# Altium footprint library PcbLib1.PcbLib: 11 footprints
Each footprint in its own frame and in the unit in brackets; x right, y up, seen from the top. Pads: shape width x height; smd on the part's side, far side on the other; paste and mask are expansions set on the pad; w line width, h text height; cw(c..) or ccw(c..) is an arc to the next point about the centre after c.
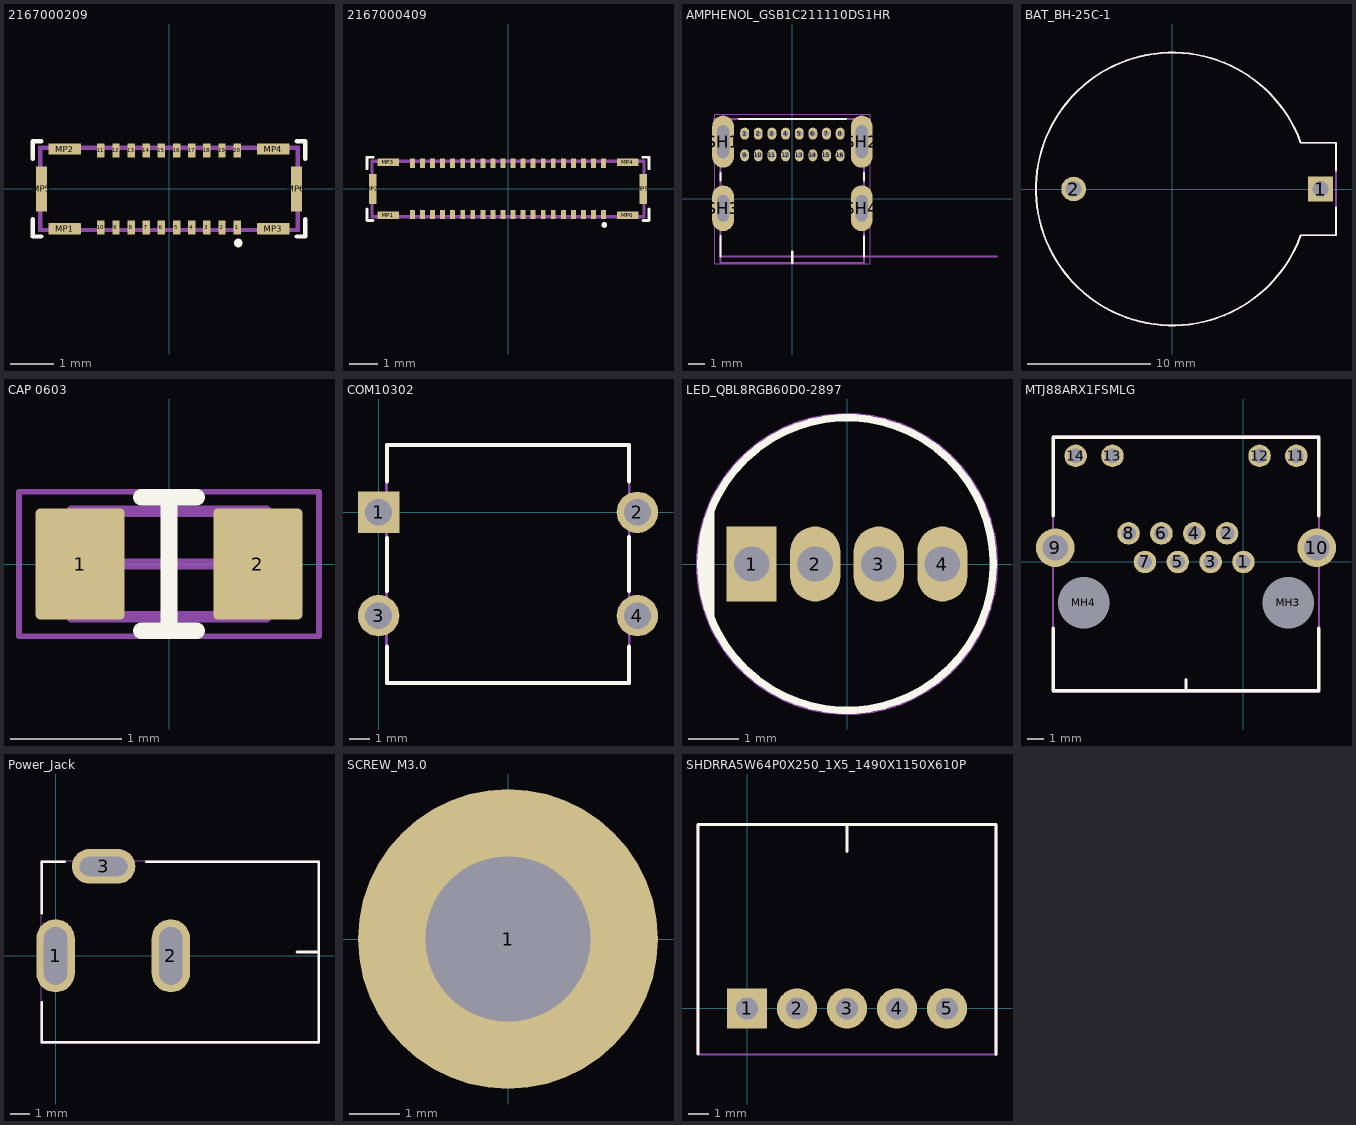
[diagram p0: the footprints below, top view; thin cyan lines are the x and y axes]

## 2167000209 [mm]
pads (26):
  rrect10% 0.17x0.325 smd: 1(1.575,-0.888) 2(1.225,-0.888) 3(0.875,-0.888) 4(0.525,-0.888) 5(0.175,-0.888) 6(-0.175,-0.888) 7(-0.525,-0.888) 8(-0.875,-0.888) 9(-1.225,-0.888) 10(-1.575,-0.888) 11(-1.575,0.888) 12(-1.225,0.888) 13(-0.875,0.888) 14(-0.525,0.888) 15(-0.175,0.888) 16(0.175,0.888) 17(0.525,0.888) 18(0.875,0.888) 19(1.225,0.888) 20(1.575,0.888)
  rrect10% 0.75x0.26 smd: MP1(-2.41,-0.92) MP2(-2.41,0.92) MP3(2.41,-0.92) MP4(2.41,0.92)
  rrect10% 0.26x1.04 smd: MP5(-2.945,0) MP6(2.945,0)
Top Overlay:
  lines w0.1: -3.15,-0.7 -3.15,-1.1 -2.95,-1.1 ; -3.15,0.7 -3.15,1.1 -2.95,1.1 ; 2.95,-1.1 3.15,-1.1 3.15,-0.7 ; 2.95,1.1 3.15,1.1 3.15,0.7 ; 1.6,-1.3 cw(c1.6,-1.25) 1.6,-1.2 cw(c1.6,-1.25) 1.6,-1.3
Mechanical 15:
  lines w0.1: -2.975,-0.95 -2.975,0.95 2.975,0.95 2.975,-0.95 -2.975,-0.95
Mechanical 20:
  lines w0.05: -3,-0.975 -3,0.975 3,0.975 3,-0.975 -3,-0.975

## 2167000409 [mm]
pads (46):
  rrect10% 0.17x0.325 smd: 1(3.325,-0.887) 2(2.975,-0.887) 3(2.625,-0.887) 4(2.275,-0.887) 5(1.925,-0.887) 6(1.575,-0.887) 7(1.225,-0.887) 8(0.875,-0.887) 9(0.525,-0.887) 10(0.175,-0.887) 11(-0.175,-0.887) 12(-0.525,-0.887) 13(-0.875,-0.887) 14(-1.225,-0.887) 15(-1.575,-0.887) 16(-1.925,-0.887) 17(-2.275,-0.887) 18(-2.625,-0.887) 19(-2.975,-0.887) 20(-3.325,-0.887) 21(-3.325,0.888) 22(-2.975,0.888) 23(-2.625,0.888) 24(-2.275,0.888) 25(-1.925,0.888) 26(-1.575,0.888) 27(-1.225,0.888) 28(-0.875,0.888) 29(-0.525,0.888) 30(-0.175,0.888) 31(0.175,0.888) 32(0.525,0.888) 33(0.875,0.888) 34(1.225,0.888) 35(1.575,0.888) 36(1.925,0.888) 37(2.275,0.888) 38(2.625,0.888) 39(2.975,0.888) 40(3.325,0.888)
  rrect10% 0.75x0.26 smd: MP1(-4.16,-0.92) MP3(-4.16,0.92) MP4(4.16,0.92) MP6(4.16,-0.92)
  rrect10% 0.26x1.04 smd: MP2(-4.695,0) MP5(4.695,0)
Top Overlay:
  lines w0.1: -4.9,-0.7 -4.9,-1.1 -4.7,-1.1 ; -4.9,0.7 -4.9,1.1 -4.7,1.1 ; 4.7,-1.1 4.9,-1.1 4.9,-0.7 ; 4.7,1.1 4.9,1.1 4.9,0.7 ; 3.35,-1.3 cw(c3.35,-1.25) 3.35,-1.2 cw(c3.35,-1.25) 3.35,-1.3
Mechanical 15:
  lines w0.1: -4.725,-0.95 -4.725,0.95 4.725,0.95 4.725,-0.95 -4.725,-0.95
Mechanical 20:
  lines w0.05: -4.75,-1 -4.75,1 4.75,1 4.75,-1 -4.75,-1

## AMPHENOL_GSB1C211110DS1HR [mm]
height 3.35
pads (20):
  oval 0.55x0.75 hole 0.35 mask+0.05: 1(-2.975,4.05) 2(-2.125,4.05) 3(-1.275,4.05) 4(-0.425,4.05) 5(0.425,4.05) 6(1.275,4.05) 7(2.125,4.05) 8(2.975,4.05) 9(-2.975,2.7) 10(-2.125,2.7) 11(-1.275,2.7) 12(-0.425,2.7) 13(0.425,2.7) 14(1.275,2.7) 15(2.125,2.7) 16(2.975,2.7)
  oval 1.35x3.25 hole 0.75 slot 2.05 at 90 deg: SH1(-4.32,3.55) SH2(4.32,3.55)
  oval 1.35x2.85 hole 0.75 slot 1.65 at 90 deg: SH3(-4.32,-0.6) SH4(4.32,-0.6)
Top Overlay:
  lines w0.127: -4.47,-3.6 -4.47,-2.345 ; -4.47,1.145 -4.47,1.605 ; -3.325,4.97 3.325,4.97 ; 4.47,-3.6 4.47,-2.345 ; 4.47,1.145 4.47,1.605
  lines w0.15: 0,-4 0,-3.3
Mechanical 13:
  lines w0.127: 12.75,-3.6 -4.47,-3.6 ; -4.47,-3.6 -4.47,-4 4.47,-4 4.47,2.673 4.845,2.673 4.845,4.97 -4.845,4.97 -4.845,2.673 -4.47,2.673 -4.47,-3.6
  text "PCB EDGE" at 5.5,-3.35 h1.02
Mechanical 15:
  lines w0.05: -4.85,-4.05 -4.85,5.25 4.85,5.25 4.85,-4.05 -4.85,-4.05
Mechanical 20:
  lines w0.05: -4.85,-4.05 4.85,-4.05 4.85,5.25 -4.85,5.25 -4.85,-4.05
3D body: height 0.25, standoff 0, extent -4.847,-3.7 4.85,5.27

## BAT_BH-25C-1 [mm]
height 8.7
pads (2):
  rect 2x2 / inner round 2 / far side rect 2x2 hole 1.3: 1(12,0)
  round 2 hole 1.3: 2(-8,0)
Top Overlay:
  lines w0.15: 10.384,-3.779 cw(c0.001,0) 10.384,3.779 ; 10.394,-3.75 13.25,-3.75 13.25,-1.5 ; 10.394,3.75 13.25,3.75 13.25,1.5
Mechanical 13:
  lines w0.127: 10.384,-3.779 cw(c0.001,0) 10.384,3.779 ; 10.394,-3.75 13.25,-3.75 13.25,3.75 10.394,3.75
Mechanical 20:
  lines w0.05: 10.384,-3.779 cw(c0.001,0) 10.384,3.779 ; 10.394,-3.75 13.25,-3.75 13.25,-1.5 13.25,3.75 10.394,3.75

## CAP 0603 [mm] "Chip Resistor, 2-Leads, Body 1.60x0.80mm"
height 0.45
pads (2):
  rrect10% 0.8x1 smd: 1(-0.8,0) 2(0.8,0)
Top Overlay:
  lines w0.15: -0.25,-0.6 0.25,-0.6 ; -0.25,0.6 0.25,0.6 ; 0,-0.6 0,0.6
Mechanical 13:
  lines w0.1: -0.875,-0.475 -0.875,0.475 0.875,0.475 0.875,-0.475 -0.875,-0.475
Mechanical 15:
  lines w0.05: -1.35,-0.65 -1.35,0.65 1.35,0.65 1.35,-0.65 -1.35,-0.65
  lines w0.1: -0.475,0 0.475,0 ; 0,-0.475 0,0.475
3D body "0603 resistor.STEP": height 0.45, standoff 0, extent -0.8,-0.4 0.8,0.4

## COM10302 [mm]
pads (4):
  rect 2x2 hole 1.3: 1(0,0)
  round 2 hole 1.3: 2(12.5,0) 3(0,-5) 4(12.5,-5)
Top Overlay:
  lines w0.2: 0.4,-6.5 0.4,-8.25 12.1,-8.25 12.1,-6.5 ; 0.4,-3.8 0.4,-1.25 ; 0.4,1.5 0.4,3.25 12.1,3.25 12.1,1.5 ; 12.1,-3.8 12.1,-1.2
Mechanical 15:
  lines w0.1: 0.4,-8.25 12.1,-8.25 12.1,3.25 0.4,3.25 0.4,-8.25
Mechanical 20:
  lines w0.05: 0.35,3.3 0.35,-8.3 12.15,-8.3 12.15,3.3
  lines w0.1: 0.35,3.3 12.15,3.3

## LED_QBL8RGB60D0-2897 [mm]
height 8.65
pads (4):
  rect 1x1.5 / inner oval 1x1.5 / far side rect 1x1.5 hole 0.7: 1(-1.905,0)
  oval 1x1.5 hole 0.7: 2(-0.635,0) 3(0.635,0) 4(1.905,0)
Top Overlay:
  circle w0.15: c0,0 r2.925
  lines w0.1: -2.7,-1.1 -2.7,1.105
  lines w0.15: -2.794,-0.762 -2.794,0.762
Mechanical 13:
  circle w0.127: c0,0 r2.925
Mechanical 20:
  circle w0.05: c0,0 r3

## MTJ88ARX1FSMLG [mm]
pads (16):
  round 1.4 hole 0.9: 1(0,0) 2(-1.02,1.78) 3(-2.04,0) 4(-3.06,1.78) 5(-4.08,0) 6(-5.1,1.78) 7(-6.12,0) 8(-7.14,1.78) 11(3.29,6.6) 12(1,6.6) 13(-8.14,6.6) 14(-10.43,6.6)
  round 2.4 hole 1.6: 9(-11.695,0.89) 10(4.555,0.89)
  round 1.6 hole 3.2 unplated: MH3(2.78,-2.54) MH4(-9.92,-2.54)
Top Overlay:
  lines w0.2: -11.82,-4.125 -11.82,-8 4.68,-8 4.68,-4.125 ; -11.82,2.875 -11.82,7.75 4.68,7.75 4.68,2.875 ; -3.57,-8 -3.57,-7.32
Top Courtyard:
  lines w0.1: -11.85,-8.1 4.7,-8.1 4.7,7.85 -11.85,7.85 -11.85,-8.1
Mechanical 15:
  lines w0.1: -11.82,-8 4.68,-8 4.68,7.75 -11.82,7.75 -11.82,-8
Mechanical 20:
  lines w0.1: -11.85,-8.05 4.7,-8.05 4.7,7.85 -11.85,7.85 -11.85,-8.05

## Power_Jack [mm]
pads (3):
  oval 2x3.8 hole 1.2 slot 3 at 90 deg: 1(0,0) 2(6,0)
  oval 3.3x1.8 hole 1 slot 2.5 at 0 deg: 3(2.5,4.65)
Top Overlay:
  lines w0.127: -0.723,-2.413 -0.723,-4.5 13.677,-4.5 13.677,4.9 4.727,4.9 ; -0.723,2.21 -0.723,4.9 0.483,4.9
  lines w0.15: 12.55,0.2 13.677,0.2
  lines w0.254: 5.969,0 5.977,0
Mechanical 20:
  lines w0.05: -0.75,-4.55 13.7,-4.55 13.7,4.95 -0.75,4.95 -0.75,-4.55
3D body "Power_JackPJ-102A.step": height 11.49, standoff -3.02, extent -0.762,-4.446 13.638,4.954

## SCREW_M3.0 [mm] "M3 Screw Close FIt"
pads (1):
  round 6 hole 3.301: 1(0,0)

## SHDRRA5W64P0X250_1X5_1490X1150X610P [mm]
pads (5):
  rect 2x2 / inner round 2 / far side rect 2x2 hole 1.1: 1(0,0)
  round 2 hole 1.1: 2(2.5,0) 3(5,0) 4(7.5,0) 5(10,0)
Top Overlay:
  lines w0.15: -2.45,-2.286 -2.45,9.2 12.45,9.2 12.45,-2.3 ; 5,7.85 5,9.2
Mechanical 15:
  lines w0.004: -2.45,-2.3 -2.45,9.2
  lines w0.1: -2.45,-2.3 12.45,-2.3
  lines w0.15: -2.45,9.2 12.45,9.2 12.45,-2.3
Mechanical 20:
  lines w0.05: -2.5,-2.3 -2.5,9.25 12.5,9.25 12.5,-2.3 -2.5,-2.3